# Altium integrated library VitalSignal EcgPpg Board.IntLib: 33 symbols
Pins are listed as number, name and electrical type; pins without a type are passive.

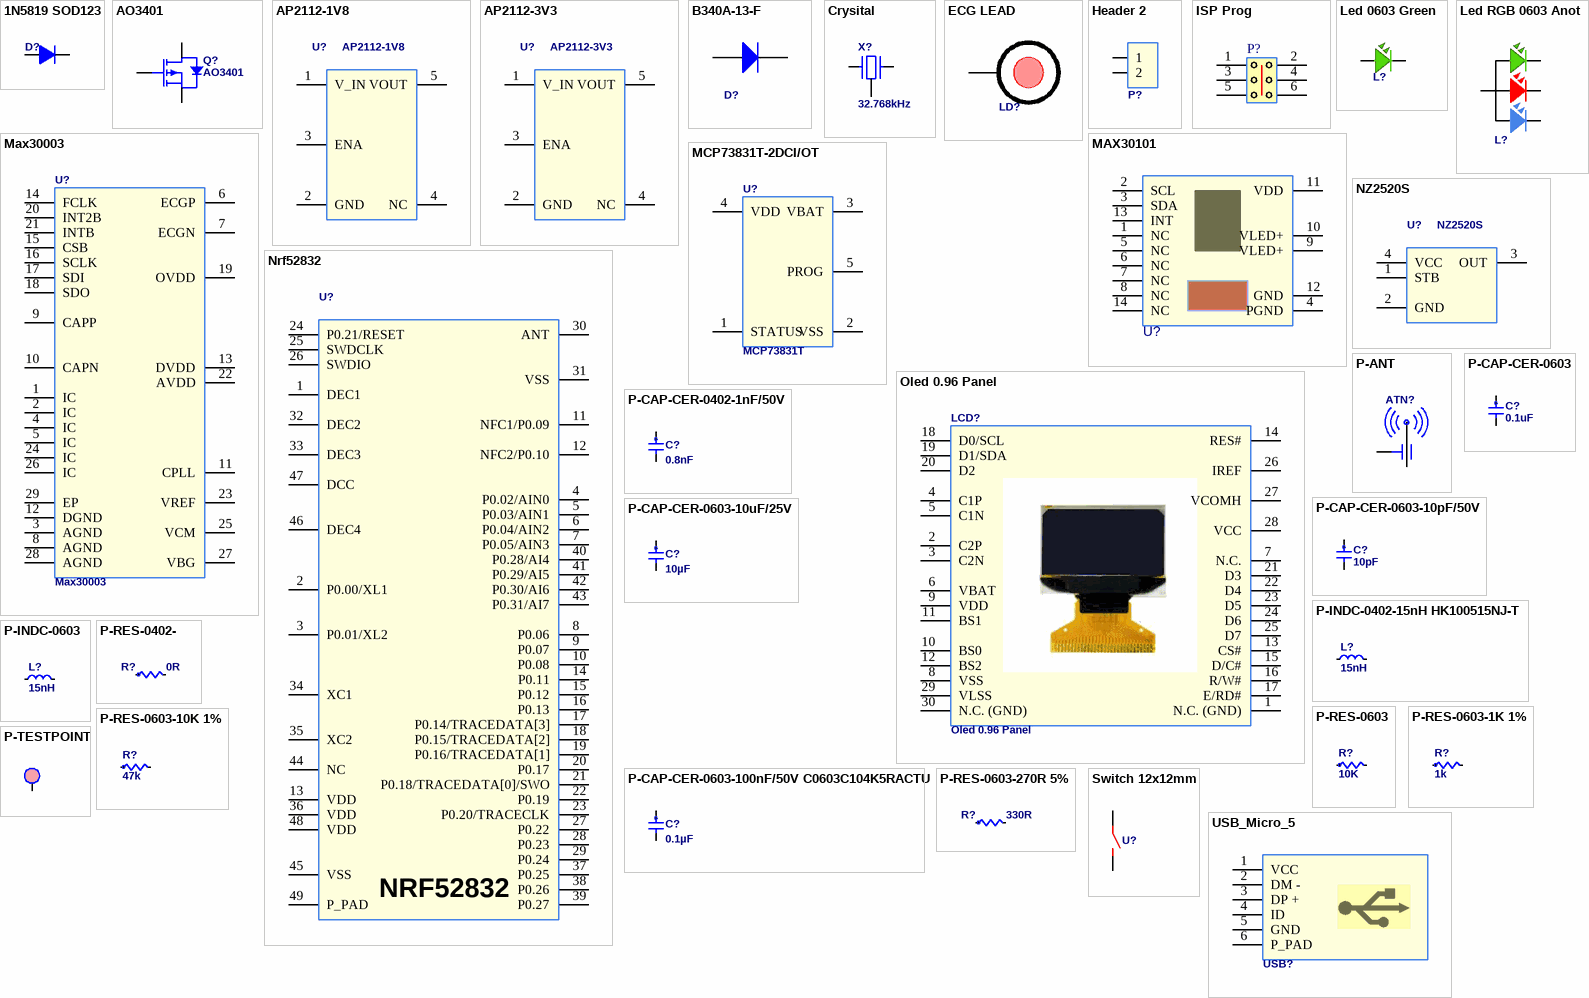
[diagram p0: symbols 1N5819 SOD123 to USB_Micro_5]

## 1N5819 SOD123
designator D?, comment 1N4148  (value not drawn)
Diode 1N5819 SOD123; Value: 1N4007
footprint P-SOD323 (SC-76)
pins: 1 A, 2 K

## AO3401
designator Q?
MOSFET P - CHANNEL AO3401; Value: IRF840
footprint SOT23 (SOT 23 _ 1-3-2)
pins: 1 G, 2 S, 3 D

## AP2112-1V8
designator U?
600mA CMOS LDO REGULATOR WITH ENABLE
footprint SOT235_AP2112 (SOT23, 5-Leads, Body 3.00x2.80mm, Pitch 0.95mm, IPC Medium Density)
pins: 1 V_IN, 2 GND, 3 ENA, 4 NC, 5 VOUT

## AP2112-3V3
designator U?
600mA CMOS LDO REGULATOR WITH ENABLE
footprint SOT235_AP2112 (SOT23, 5-Leads, Body 3.00x2.80mm, Pitch 0.95mm, IPC Medium Density)
pins: 1 V_IN, 2 GND, 3 ENA, 4 NC, 5 VOUT

## B340A-13-F
designator D?  (value not drawn)
Ði ôìt xung 3A/40V, chân dán; 2.HSX: VISHAY; 1.DV: Cái; GT: B340A-13-F
footprint B340A
footprint DIODE SOD 123
pins: 1 A, 2 K

## Crysital
designator X?, comment 32.768kHz
Crystal ABS06; Value: 4Mhz
footprint XTAL 32.768 KHZ
footprint ABS06_CRYSISTAL
pins: 1, 2, 3

## ECG LEAD
designator LD?  (value not drawn)
footprint ECG PAD
pins: 1

## Header 2
designator P?  (value not drawn)
Connector 2 positon pitch 2mm
footprint Header 2 2mm Pad
pins: 1, 2

## ISP Prog
designator P?  (value not drawn)
ISP Prog 5x2 2.54mm
footprint HEADER 3X2 1.27MM
pins: 1, 2, 3, 4, 5, 6

## Led 0603 Green
designator L?  (value not drawn)
footprint LED 0603 GREEN
pins: 1, 2

## Led RGB 0603 Anot
designator L?  (value not drawn)
footprint Led RGB 0603 Anode
pins: 1, 2, 2, 3, 4

## Max30003
designator U?
footprint QFN28-MAX30003 (QFN, 28-Leads, Body 5.00x5.00mm, Pitch 0.50mm, Thermal Pad 3.25x3.25mm, IPC Medium Density)
pins: 1 IC, 2 IC, 3 AGND, 4 IC, 5 IC, 6 ECGP, 7 ECGN, 8 AGND, 9 CAPP, 10 CAPN, 11 CPLL, 12 DGND, 13 DVDD, 14 FCLK, 15 CSB, 16 SCLK, 17 SDI, 18 SDO, 19 OVDD, 20 INT2B, 21 INTB, 22 AVDD, 23 VREF, 24 IC, 25 VCM, 26 IC, 27 VBG, 28 AGND, 29 EP

## MAX30101
designator U?  (value not drawn)
Pulse oximeter and Heart rate sensor
footprint MAX30101
pins: 1 NC, 2 SCL, 3 SDA, 4 PGND, 5 NC, 6 NC, 7 NC, 8 NC, 9 VLED+, 10 VLED+, 11 VDD, 12 GND, 13 INT, 14 NC

## MCP73831T-2DCI/OT
designator U?, comment MCP73831T
IC CONTROLLR LI-ION 4.2V SOT23-5
footprint SOT235_MCP73831 (SOT23, 5-Leads, Body 2.90x2.70mm, Pitch 0.95mm, IPC Medium Density)
pins: 1 STATUS, 2 VSS, 3 VBAT, 4 VDD, 5 PROG

## Nrf52832
designator U?  (value not drawn)
BLE SoC
footprint QFN48_NRF52832 (QFN, 48-Leads, Body 6.00x6.00mm, Pitch 0.40mm, Thermal Pad 4.50x4.50mm, IPC Medium Density)
pins: 1 DEC1, 2 P0.00/XL1, 3 P0.01/XL2, 4 P0.02/AIN0, 5 P0.03/AIN1, 6 P0.04/AIN2, 7 P0.05/AIN3, 8 P0.06, 9 P0.07, 10 P0.08, 11 NFC1/P0.09, 12 NFC2/P0.10, 13 VDD, 14 P0.11, 15 P0.12, 16 P0.13, 17 P0.14/TRACEDATA[3], 18 P0.15/TRACEDATA[2], 19 P0.16/TRACEDATA[1], 20 P0.17, 21 P0.18/TRACEDATA[0]/SWO, 22 P0.19, 23 P0.20/TRACECLK, 24 P0.21/RESET, 25 SWDCLK, 26 SWDIO, 27 P0.22, 28 P0.23, 29 P0.24, 30 ANT, 31 VSS, 32 DEC2, 33 DEC3, 34 XC1, 35 XC2, 36 VDD, 37 P0.25, 38 P0.26, 39 P0.27, 40 P0.28/AI4, 41 P0.29/AI5, 42 P0.30/AI6, 43 P0.31/AI7, 44 NC, 45 VSS, 46 DEC4, 47 DCC, 48 VDD, 49 P_PAD
text: NRF52832

## NZ2520S
designator U?
Crystal Clock Oscillator
footprint NZ2520S
pins: 1 STB, 2 GND, 3 OUT, 4 VCC

## Oled 0.96 Panel
designator LCD?
Oled 0.96 inch 128x64 Panel
footprint OLED 0.96 PANEL
pins: 1 N.C. (GND), 2 C2P, 3 C2N, 4 C1P, 5 C1N, 6 VBAT, 7 N.C., 8 VSS, 9 VDD, 10 BS0, 11 BS1, 12 BS2, 13 CS#, 14 RES#, 15 D/C#, 16 R/W#, 17 E/RD#, 18 D0/SCL, 19 D1/SDA, 20 D2, 21 D3, 22 D4, 23 D5, 24 D6, 25 D7, 26 IREF, 27 VCOMH, 28 VCC, 29 VLSS, 30 N.C. (GND)

## P-ANT
designator ATN?  (value not drawn)
footprint Antenna 2G4
pins: 1, 2

## P-CAP-CER-0402-1nF/50V
designator C?, comment 0.8nF
CAP CER 1000PF 50V X7R 0402; Manufacturer: Murata Electronics North America; Manufacturer Part Number: GRM155R71H102KA01D; Tolerance: ±10%; Supplier 1: Digi-Key; RoHS: RoHS Compliant; Category: Capacitors; Stock 1: 8779679; Pricing 1: 1=0.1, 10=0.011, 100=0.005, 1000=0.00283, 2500=0.00257, 5000=0.00237 (USD); Packaging: Cut Tape (CT); Part Status: Active; Capacitance: 1000pF; Temperature Coefficient: X7R; Operating Temperature: -55°C ~ 125°C; Features: -; Ratings: -; Applications: General Purpose; Mounting Type: Surface Mount, MLCC; Package / Case: 0402 (1005 Metric); Size / Dimension: 0.039" L x 0.020" W (1.00mm x 0.50mm); Height - Seated (Max): -; Thickness (Max): 0.022" (0.55mm); Lead Spacing: -; Lead Style: -; ComponentLink1URL: http://www.murata.com/~/media/webrenewal/support/library/catalog/products/capacitor/mlcc/c02e.ashx; ComponentLink1Description: http://www.murata.com/~/media/webrenewal/support/library/catalog/products/capacitor/mlcc/c02e.ashx; Supplier Part Number 1: 490-1303-1-ND; Voltage - Rated: 50V
footprint P-CAP-CER-0402 (Capacitors, 2-Leads, Body 1.00x0.50mm)
pins: 1, 2

## P-CAP-CER-0603
designator C?, comment 0.1uF
footprint P-CAP-CER-0402 (Capacitors, 2-Leads, Body 1.00x0.50mm)
pins: 1, 2

## P-CAP-CER-0603-10pF/50V
designator C?, comment 10pF
CAP CER 10PF 50V C0G/NP0 0603; Manufacturer: KEMET; Manufacturer Part Number: C0603C100J5GACTU; Tolerance: ±5%; Temperature Coefficient: C0G, NP0; Supplier 1: Digi-Key; RoHS: RoHS Compliant; Category: Capacitors; Stock 1: 656051; Pricing 1: 1=0.1, 10=0.035, 100=0.0155, 500=0.01108, 1000=0.00871 (USD); Packaging: Cut Tape (CT); Part Status: Active; Capacitance: 10pF; Voltage - Rated: 50V; Operating Temperature: -55°C ~ 125°C; Features: Low ESL; Ratings: -; Applications: General Purpose; Failure Rate: -; Mounting Type: Surface Mount, MLCC; Package / Case: 0603 (1608 Metric); Size / Dimension: 0.063" L x 0.031" W (1.60mm x 0.80mm); Height - Seated (Max): -; Thickness (Max): 0.034" (0.87mm); Lead Spacing: -; Lead Style: -; ComponentLink1URL: http://www.kemet.com/docfinder?Partnumber=C0603C100J5GACTU; ComponentLink1Description: http://www.kemet.com/docfinder?Partnumber=C0603C100J5GACTU; Supplier Part Number 1: 399-1049-1-ND
footprint P-CAP-CER-0402 (Capacitors, 2-Leads, Body 1.00x0.50mm)
pins: 1, 2

## P-CAP-CER-0603-10uF/25V
designator C?, comment 10µF
CAP CER 10UF 25V X5R 0603; Manufacturer: Murata Electronics North America; Manufacturer Part Number: GRM188R61E106MA73D; Tolerance: ±20%; Supplier 1: Digi-Key; RoHS: RoHS Compliant; Category: Capacitors; Stock 1: 477127; Pricing 1: 1=0.39, 10=0.272, 100=0.163, 1000=0.10324 (USD); Packaging: Cut Tape (CT); Part Status: Active; Capacitance: 10µF; Temperature Coefficient: X5R; Operating Temperature: -55°C ~ 85°C; Features: -; Ratings: -; Applications: General Purpose; Mounting Type: Surface Mount, MLCC; Package / Case: 0603 (1608 Metric); Size / Dimension: 0.063" L x 0.031" W (1.60mm x 0.80mm); Height - Seated (Max): -; Thickness (Max): 0.031" (0.80mm); Lead Spacing: -; Lead Style: -; ComponentLink1URL: http://www.murata.com/~/media/webrenewal/support/library/catalog/products/capacitor/mlcc/c02e.ashx; ComponentLink1Description: http://www.murata.com/~/media/webrenewal/support/library/catalog/products/capacitor/mlcc/c02e.ashx; Supplier Part Number 1: 490-7202-1-ND; Voltage - Rated: 25V
footprint P-CAP-CER-0402 (Capacitors, 2-Leads, Body 1.00x0.50mm)
pins: 1, 2

## P-CAP-CER-0603-100nF/50V C0603C104K5RACTU
designator C?, comment 0.1µF
CAP CER 0.1UF 50V X7R 0603; Manufacturer: KEMET; Manufacturer Part Number: C0603C104K5RACTU; Tolerance: ±10%; Supplier 1: Digi-Key; RoHS: RoHS Compliant; Category: Capacitors; Stock 1: 1198108; Pricing 1: 1=0.1, 10=0.027, 100=0.0118, 1000=0.00664 (USD); Packaging: Cut Tape (CT); Part Status: Active; Capacitance: 0.1µF; Temperature Coefficient: X7R; Operating Temperature: -55°C ~ 125°C; Features: -; Ratings: -; Applications: General Purpose; Failure Rate: -; Mounting Type: Surface Mount, MLCC; Package / Case: 0603 (1608 Metric); Size / Dimension: 0.063" L x 0.031" W (1.60mm x 0.80mm); Height - Seated (Max): -; Thickness (Max): 0.034" (0.87mm); Lead Spacing: -; Lead Style: -; ComponentLink1URL: http://www.kemet.com/docfinder?Partnumber=C0603C104K5RACTU; ComponentLink1Description: http://www.kemet.com/docfinder?Partnumber=C0603C104K5RACTU; Supplier Part Number 1: 399-5089-1-ND; Voltage - Rated: 50V
footprint P-CAP-CER-0402 (Capacitors, 2-Leads, Body 1.00x0.50mm)
pins: 1, 2

## P-INDC-0402-15nH HK100515NJ-T
designator L?, comment 15nH
FIXED IND 15NH 320MA 460 MOHM; Manufacturer: Taiyo Yuden; Manufacturer Part Number: HK100515NJ-T; Type: Multilayer; Material - Core: Ferrite; Tolerance: ±5%; Shielding: Unshielded; DC Resistance (DCR): 460 mOhm Max; Q @ Freq: 8 @ 100MHz; Frequency - Self Resonant: 2.3GHz; Supplier 1: Digi-Key; RoHS: RoHS Compliant; Category: Inductors, Coils, Chokes; Stock 1: 140000; Pricing 1: 10000=0.0192, 30000=0.0186, 50000=0.018, 100000=0.0174 (USD); Packaging: Tape & Reel (TR); Part Status: Active; Inductance: 15nH; Current Rating: 320mA; Current - Saturation: -; Ratings: -; Operating Temperature: -55°C ~ 125°C; Mounting Type: Surface Mount; Package / Case: 0402 (1005 Metric); Supplier Device Package: 0402 (1005 Metric); Size / Dimension: 0.039" L x 0.020" W (1.00mm x 0.50mm); Height - Seated (Max): 0.022" (0.55mm); ComponentLink1URL: http://ds.yuden.co.jp/TYCOMPAS/ut/detail.do?productNo=HK100515NJ-T&fileName=HK100515NJ-T_SS&mode=specSheetDownload; ComponentLink1Description: http://ds.yuden.co.jp/TYCOMPAS/ut/detail.do?productNo=HK100515NJ-T&fileName=HK100515NJ-T_SS&mode=specSheetDownload; Supplier Part Number 1: 587-1521-2-ND
footprint P-INDC-0402INDC1005X60N EIA (1X0.6X0.5)
pins: 1, 2

## P-INDC-0603
designator L?, comment 15nH
footprint P-INDC-0402INDC1005X60N EIA (1X0.6X0.5)
pins: 1, 2

## P-RES-0402-
designator R?, comment 0R
footprint P-RES-0402 (Chip Resistor, 2-Leads, Body 1.00x0.50mm)
pins: 1, 2

## P-RES-0603
designator R?, comment 10K
footprint P-RES-0402 (Chip Resistor, 2-Leads, Body 1.00x0.50mm)
pins: 1, 2

## P-RES-0603-1K 1%
designator R?, comment 1k
RES SMD 1K OHM 1% 1/10W 0603; Manufacturer: Yageo; Manufacturer Part Number: RC0603FR-071KL; Power (Watts): 0.1W, 1/10W; Temperature Coefficient: ±100ppm/°C; Supplier 1: Digi-Key; RoHS: RoHS Compliant; Category: Resistors; Stock 1: 9472825; Pricing 1: 1=0.1, 10=0.013, 25=0.0096, 50=0.0074, 100=0.0055, 250=0.00416, 500=0.00332, 1000=0.00245 (USD); Packaging: Cut Tape (CT); Part Status: Active; Resistance (Ohms): 1k; Tolerance: ±1%; Composition: Thick Film; Features: Moisture Resistant; Operating Temperature: -55°C ~ 155°C; Package / Case: 0603 (1608 Metric); Supplier Device Package: 0603; Size / Dimension: 0.063" L x 0.031" W (1.60mm x 0.80mm); Height - Seated (Max): 0.022" (0.55mm); Failure Rate: -; ComponentLink1URL: http://www.yageo.com/documents/recent/PYu-RC_Group_51_RoHS_L_7.pdf; ComponentLink1Description: http://www.yageo.com/documents/recent/PYu-RC_Group_51_RoHS_L_7.pdf; Supplier Part Number 1: 311-1.00KHRCT-ND
footprint P-RES-0402 (Chip Resistor, 2-Leads, Body 1.00x0.50mm)
pins: 1, 2

## P-RES-0603-10K 1%
designator R?, comment 47k
RES SMD 10K OHM 1% 1/10W 0603; Manufacturer: Yageo; Manufacturer Part Number: RC0603FR-0710KL; Power (Watts): 0.1W, 1/10W; Temperature Coefficient: ±100ppm/°C; Supplier 1: Digi-Key; RoHS: RoHS Compliant; Category: Resistors; Stock 1: 14453349; Pricing 1: 1=0.1, 10=0.013, 25=0.0096, 50=0.0074, 100=0.0055, 250=0.00416, 500=0.00332, 1000=0.00245 (USD); Packaging: Cut Tape (CT); Part Status: Active; Resistance (Ohms): 10k; Tolerance: ±1%; Composition: Thick Film; Features: Moisture Resistant; Operating Temperature: -55°C ~ 155°C; Package / Case: 0603 (1608 Metric); Supplier Device Package: 0603; Size / Dimension: 0.063" L x 0.031" W (1.60mm x 0.80mm); Height - Seated (Max): 0.022" (0.55mm); Failure Rate: -; ComponentLink1URL: http://www.yageo.com/documents/recent/PYu-RC_Group_51_RoHS_L_7.pdf; ComponentLink1Description: http://www.yageo.com/documents/recent/PYu-RC_Group_51_RoHS_L_7.pdf; Supplier Part Number 1: 311-10.0KHRCT-ND
footprint P-RES-0402 (Chip Resistor, 2-Leads, Body 1.00x0.50mm)
pins: 1, 2

## P-RES-0603-270R 5%
designator R?, comment 330R
RES SMD 270 OHM 5% 1/10W 0603; Manufacturer: Yageo; Manufacturer Part Number: RC0603JR-07270RL; Resistance (Ohms): 270; Power (Watts): 0.1W, 1/10W; Temperature Coefficient: ±100ppm/°C; Supplier 1: Digi-Key; RoHS: RoHS Compliant; Category: Resistors; Stock 1: 445225; Pricing 1: 1=0.1, 10=0.011, 100=0.0044, 1000=0.00198, 2500=0.00172 (USD); Packaging: Cut Tape (CT); Part Status: Active; Tolerance: ±5%; Composition: Thick Film; Features: Moisture Resistant; Operating Temperature: -55°C ~ 155°C; Package / Case: 0603 (1608 Metric); Supplier Device Package: 0603; Size / Dimension: 0.063" L x 0.031" W (1.60mm x 0.80mm); Height - Seated (Max): 0.022" (0.55mm); Failure Rate: -; ComponentLink1URL: http://www.yageo.com/documents/recent/PYu-RC_Group_51_RoHS_L_7.pdf; ComponentLink1Description: http://www.yageo.com/documents/recent/PYu-RC_Group_51_RoHS_L_7.pdf; Supplier Part Number 1: 311-270GRCT-ND
footprint P-RES-0402 (Chip Resistor, 2-Leads, Body 1.00x0.50mm)
pins: 1, 2

## P-TESTPOINT
designator TP?, comment TP  (value not drawn)  (no BOM)
footprint P-TP 1MM (Test point D= 1mm)
pins: 1

## Switch 12x12mm
designator U?  (value not drawn)
MH006214
footprint Button 3x4x2.5
pins: 1, 2

## USB_Micro_5
designator USB?  (value not drawn)
uUSB connector; Value: USB; ComponentLink1Description: LINK MUA BANLINHKIEN; ComponentLink1URL: https://banlinhkien.vn/goods-1020-microusb-mk5p-smd.html
footprint MICRO USB 5 TH
pins: 1 VCC, 2 DM -, 3 DP +, 4 ID, 5 GND, 6 P_PAD